# Altium schematic symbol library Schlib1.SchLib: 1 symbol
Pins are listed as number, name and electrical type; pins without a type are passive.

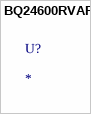
[diagram p0: symbol BQ24600RVAR]

## BQ24600RVAR
designator U?
Standalone 1-6 cell Buck battery charge controller; MF: Texas Instruments; MP: BQ24600RVAR; SnapEDA_Link: https://www.snapeda.com/parts/BQ24600RVAR/Texas+Instruments/view-part/?ref=snap; Package: VQFN-16 Texas Instruments; Value: *; Check_prices: https://www.snapeda.com/parts/BQ24600RVAR/Texas+Instruments/view-part/?ref=eda
footprint QFN50P350X350X100-17N